# EAGLE library part PROTOBOARD (library apro)
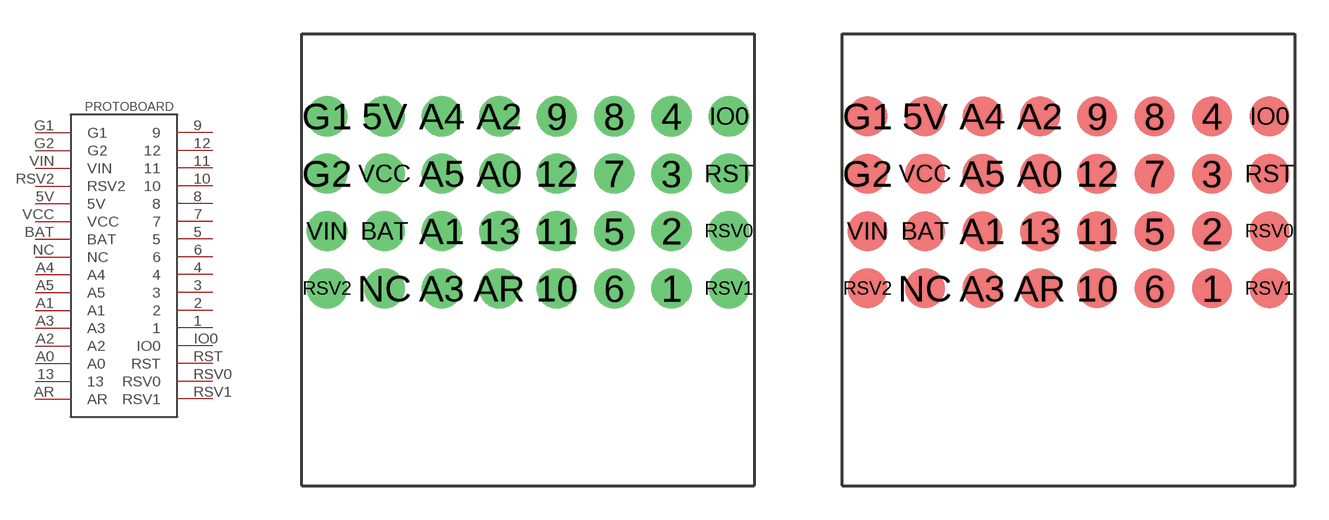
[diagram p3: symbol with the pads of PROTOBOARD; footprints PROTOBOARD, PROTOSMD]

Designator prefix SMD

## PROTOBOARD  [PROTOBOARD]
1  1
2  2
3  3
4  4
5  5
5V  5V
6  6
7  7
8  8
9  9
10  10
11  11
12  12
13  13
A0  A0
A1  A1
A2  A2
A3  A3
A4  A4
A5  A5
AR  AR
BAT  BAT
G1  G1
G2  G2
IO0  IO0
NC  NC
RST  RST
RSV0  RSV0
RSV1  RSV1
RSV2  RSV2
VCC  VCC
VIN  VIN

## PROTOBOARDSMD  [PROTOSMD]
Pads as for PROTOBOARD

## Footprint PROTOBOARD (pad centres in mm)
drill 1 pad 1.778: 1 6.35,-1.27; 2 6.35,1.27; 3 6.35,3.81; 4 6.35,6.35; 5 3.81,1.27; 5V -6.35,6.35; 6 3.81,-1.27; 7 3.81,3.81; 8 3.81,6.35; 9 1.27,6.35; 10 1.27,-1.27; 11 1.27,1.27; 12 1.27,3.81; 13 -1.27,1.27; A0 -1.27,3.81; A1 -3.81,1.27; A2 -1.27,6.35; A3 -3.81,-1.27; A4 -3.81,6.35; A5 -3.81,3.81; AR -1.27,-1.27; BAT -6.35,1.27; G1 -8.89,6.35; G2 -8.89,3.81; IO0 8.89,6.35; NC -6.35,-1.27; RST 8.89,3.81; RSV0 8.89,1.27; RSV1 8.89,-1.27; RSV2 -8.89,-1.27; VCC -6.35,3.81; VIN -8.89,1.27

## Footprint PROTOSMD (pad centres in mm)
smd 1.778 x 1.778: 1 6.35,-1.27; 2 6.35,1.27; 3 6.35,3.81; 4 6.35,6.35; 5 3.81,1.27; 5V -6.35,6.35; 6 3.81,-1.27; 7 3.81,3.81; 8 3.81,6.35; 9 1.27,6.35; 10 1.27,-1.27; 11 1.27,1.27; 12 1.27,3.81; 13 -1.27,1.27; A0 -1.27,3.81; A1 -3.81,1.27; A2 -1.27,6.35; A3 -3.81,-1.27; A4 -3.81,6.35; A5 -3.81,3.81; AR -1.27,-1.27; BAT -6.35,1.27; G1 -8.89,6.35; G2 -8.89,3.81; IO0 8.89,6.35; NC -6.35,-1.27; RST 8.89,3.81; RSV0 8.89,1.27; RSV1 8.89,-1.27; RSV2 -8.89,-1.27; VCC -6.35,3.81; VIN -8.89,1.27